# EAGLE library part HEF4052BT (library NXP_By_element14_Batch_1)
Dual 4-channel analog multiplexer/demultiplexer
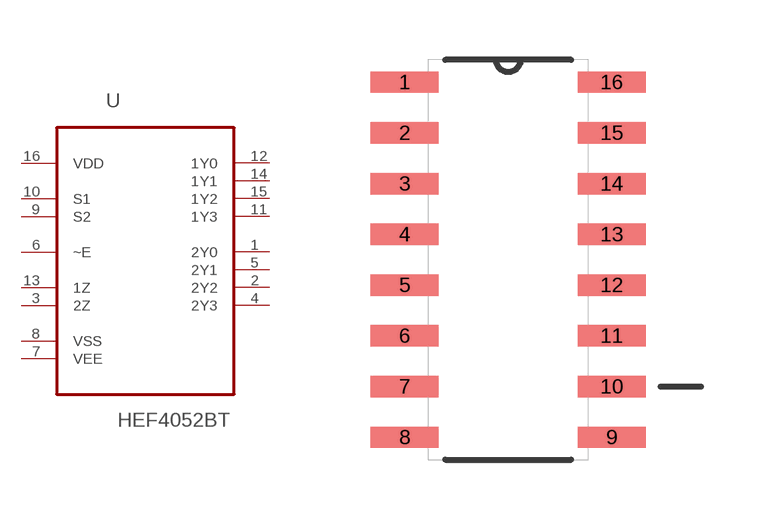
[diagram p262: symbol with the pads of SOIC127P600X175-16N; footprint SOIC127P600X175-16N]

Designator prefix U

## HEF4052BT (MPN: HEF4052BT; OC_FARNELL: 1085286; OC_NEWARK: 97K1293; P1I: o; PACKAGE: SOIC-16; SUPPLIER: NXP)  [SOIC127P600X175-16N]
1  2Y0
2  2Y2
3  2Z
4  2Y3
5  2Y1
6  ~E  in
7  VEE  pwr
8  VSS  pas
9  S2  in
10  S1  in
11  1Y3
12  1Y0
13  1Z
14  1Y1
15  1Y2
16  VDD  pwr

## Footprint SOIC127P600X175-16N (pad centres in mm)
smd 1.702 x 0.533: 1 -2.591,4.445; 2 -2.591,3.175; 3 -2.591,1.905; 4 -2.591,0.635; 5 -2.591,-0.635; 6 -2.591,-1.905; 7 -2.591,-3.175; 8 -2.591,-4.445; 9 2.591,-4.445; 10 2.591,-3.175; 11 2.591,-1.905; 12 2.591,-0.635; 13 2.591,0.635; 14 2.591,1.905; 15 2.591,3.175; 16 2.591,4.445